# Altium schematic symbol library AOTA-B201610S3R3-101-T.SchLib: 1 symbol
Pins are listed as number, name and electrical type; pins without a type are passive.

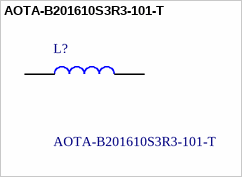
[diagram p0: symbol AOTA-B201610S3R3-101-T]

## AOTA-B201610S3R3-101-T
designator L?
Power Inductors - SMD IND 3.3uH; Manufacturer_Name: ABRACON; Geometry.Height: 1mm; Manufacturer_Part_Number: AOTA-B201610S3R3-101-T; Mouser Part Number: 815-AB201610S3R3101T; Mouser Price/Stock: https://www.mouser.co.uk/ProductDetail/ABRACON/AOTA-B201610S3R3-101-T?qs=%252BXxaIXUDbq0IZvJW%2F2mv4w%3D%3D; Arrow Part Number: AOTA-B201610S3R3-101-T; Arrow Price/Stock: https://www.arrow.com/en/products/aota-b201610s3r3-101-t/abracon?utm_currency=USD&region=nac; Datasheet Link: https://abracon.com/datasheets/AOTA-B201610S3R3-101-T.pdf
footprint AOTAB201610S3R3101T
pins: 1, 2